# Altium footprint library SOP65P810X120-33N.PcbLib: 1 footprints
Each footprint in its own frame and in the unit in brackets; x right, y up, seen from the top. Pads: shape width x height; smd on the part's side, far side on the other; paste and mask are expansions set on the pad; w line width, h text height; cw(c..) or ccw(c..) is an arc to the next point about the centre after c.
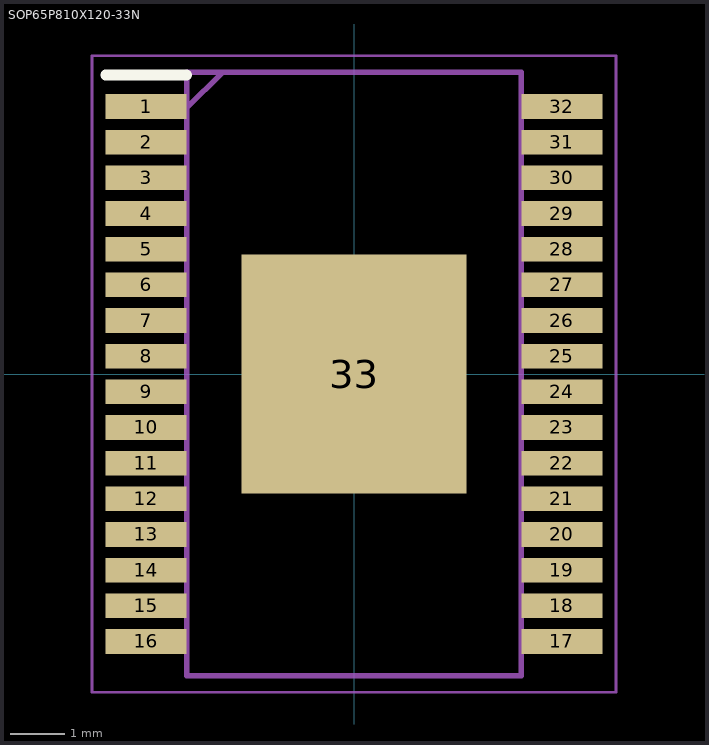
[diagram p0: the footprint, top view; thin cyan lines are the x and y axes]

## SOP65P810X120-33N [mm]
pads (33):
  rect 1.475x0.45 smd: 1(-3.788,4.875) 2(-3.788,4.225) 3(-3.788,3.575) 4(-3.788,2.925) 5(-3.788,2.275) 6(-3.788,1.625) 7(-3.788,0.975) 8(-3.788,0.325) 9(-3.788,-0.325) 10(-3.788,-0.975) 11(-3.788,-1.625) 12(-3.788,-2.275) 13(-3.788,-2.925) 14(-3.788,-3.575) 15(-3.788,-4.225) 16(-3.788,-4.875) 17(3.788,-4.875) 18(3.788,-4.225) 19(3.788,-3.575) 20(3.788,-2.925) 21(3.788,-2.275) 22(3.788,-1.625) 23(3.788,-0.975) 24(3.788,-0.325) 25(3.788,0.325) 26(3.788,0.975) 27(3.788,1.625) 28(3.788,2.275) 29(3.788,2.925) 30(3.788,3.575) 31(3.788,4.225) 32(3.788,4.875)
  rect 4.11x4.36 smd: 33(0,0)
Top Overlay:
  lines w0.2: -4.525,5.45 -3.05,5.45
Mechanical 15:
  lines w0.1: -3.05,4.85 -2.4,5.5 ; -3.05,-5.5 3.05,-5.5 3.05,5.5 -3.05,5.5 -3.05,-5.5
Mechanical 20:
  lines w0.05: -4.775,-5.8 4.775,-5.8 4.775,5.8 -4.775,5.8 -4.775,-5.8